# EAGLE library part SPM0423 (library SPM0423)
SPM0423
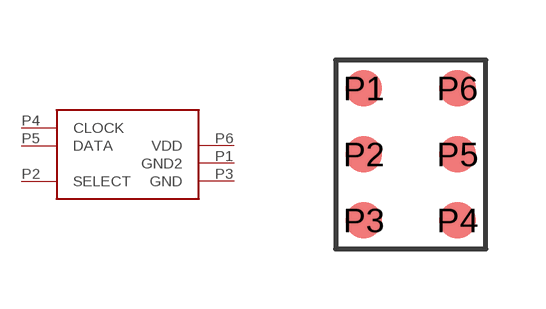
[diagram p0: symbol with the pads of SPM0423; footprint SPM0423]

Designator prefix -

## SPM0423SMD  [SPM0423]
P1  GND2  pwr
P2  SELECT  in
P3  GND  pwr
P4  CLOCK
P5  DATA
P6  VDD  pwr

## Footprint SPM0423 (pad centres in mm)
SPM0423
smd 0.91 x 0.91: P1 0.71,4.01; P2 0.71,2.36; P3 0.71,0.71; P4 3.05,0.71; P5 3.05,2.36; P6 3.05,4.01